# Altium integrated library FPGA Generic.IntLib: 1651 symbols (part 1 of 20)
Pins are listed as number, name and electrical type; pins without a type are passive.

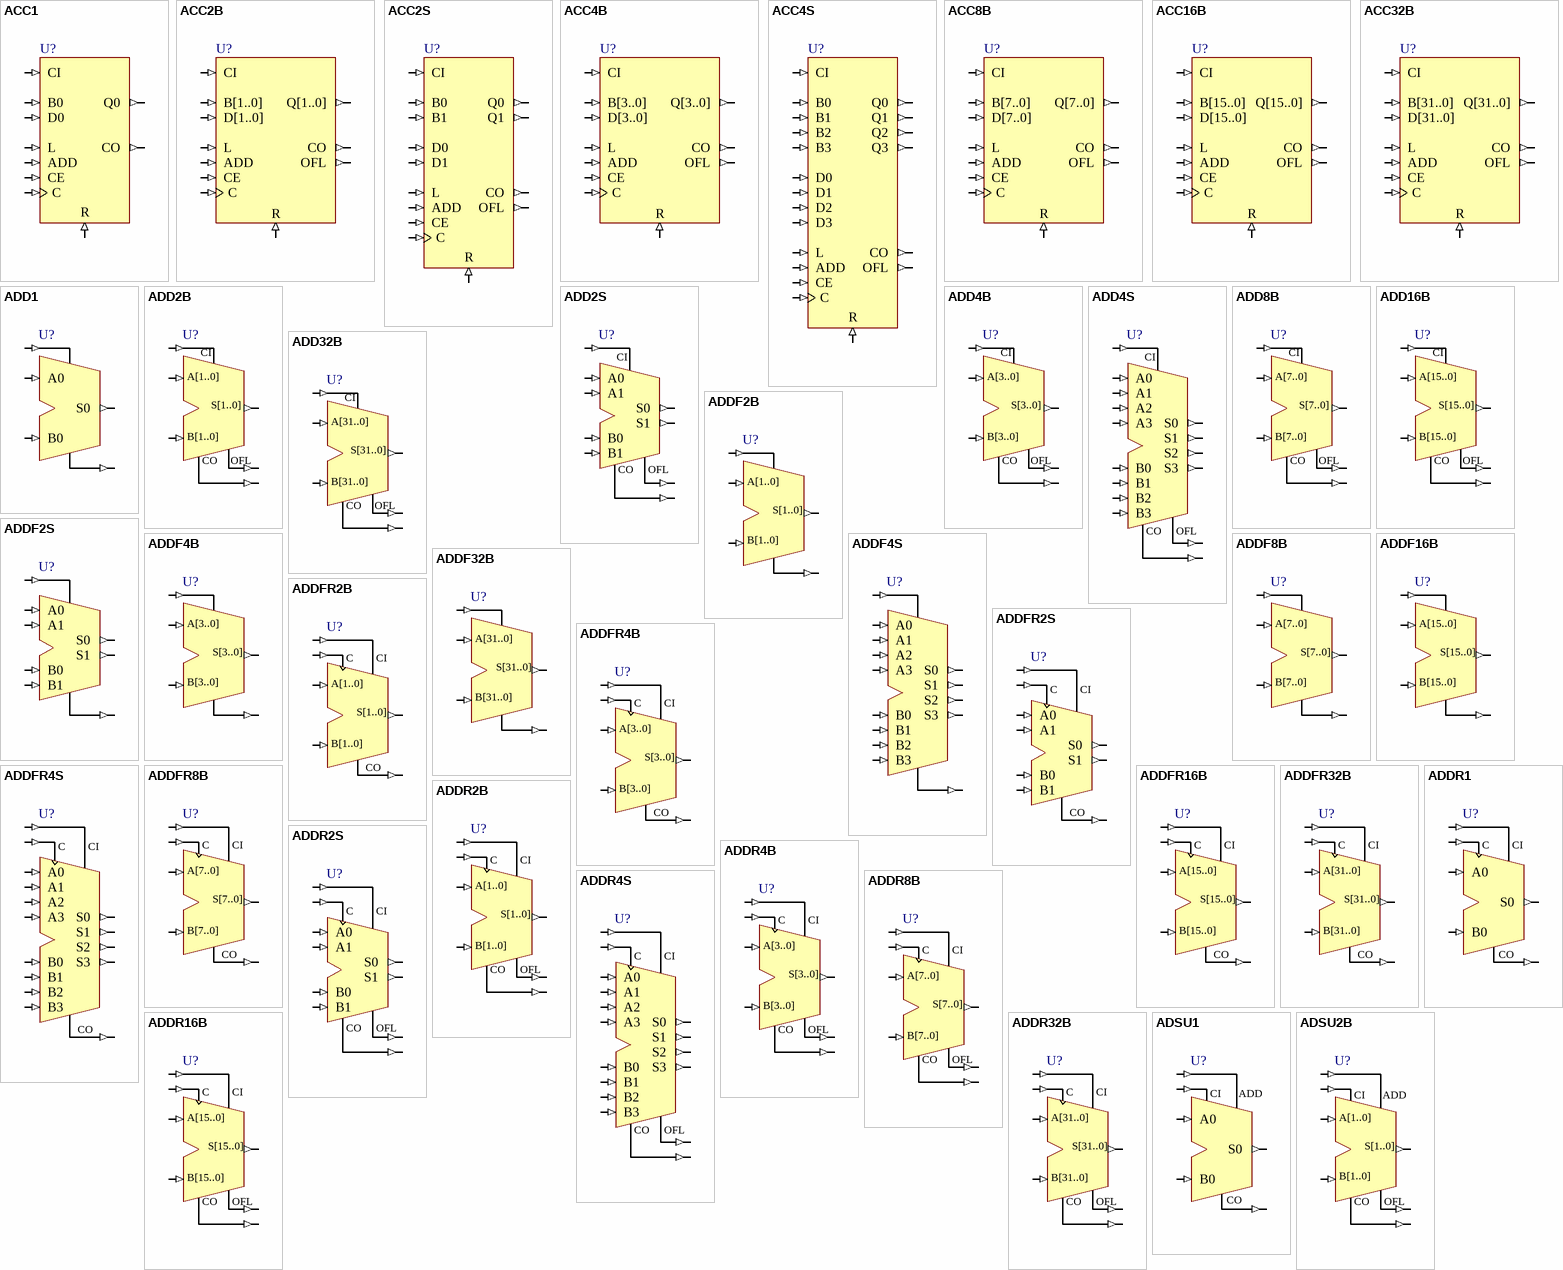
[diagram p0: symbols ACC1 to ADSU2B]

## ACC1
designator U?
1-Bit Loadable Cascadable Accumulator with Synchronous Reset; XilinxEquivalent: ACC1; FunctionalClass: Arithmetic Function; SubClass: ACC; ClockTrigger: Rising; PortSize: 1; ArchiveName: GENERIC; VHDLIB_SIM: GENERIC_LIB; Published: 31-May-2004; Publisher: Altium Limited; LastRevisionNo: 1.00.00; HelpURL: CR0118 FPGA Generic Library Guide.pdf#page=93; ComponentLink1URL: CR0124 FPGA Arithmetic Function Resource Usage.pdf#page=3; ComponentLink1Description: Core &Resource Usage
pins: ADD (in), B0 (in), C (in), CE (in), CI (in), CO (out), D0 (in), L (in), Q0 (out), R (in)

## ACC2B
designator U?
2-Bit Loadable Cascadable Accumulator with Synchronous Reset, Bus Version; FunctionalClass: Arithmetic Function; SubClass: ACC; ClockTrigger: Rising; PortSize: 2; ArchiveName: GENERIC; VHDLIB_SIM: GENERIC_LIB; Published: 31-May-2004; Publisher: Altium Limited; LastRevisionNo: 1.00.00; HelpURL: CR0118 FPGA Generic Library Guide.pdf#page=94; ComponentLink1URL: CR0124 FPGA Arithmetic Function Resource Usage.pdf#page=4; ComponentLink1Description: Core &Resource Usage; PortStyle: Bus Version
pins: ADD (in), B[1..0] (in), C (in), CE (in), CI (in), CO (out), D[1..0] (in), L (in), OFL (out), Q[1..0] (out), R (in)

## ACC2S
designator U?
2-Bit Loadable Cascadable Accumulator with Synchronous Reset, Single Pin Version; FunctionalClass: Arithmetic Function; SubClass: ACC; ClockTrigger: Rising; PortSize: 2; ArchiveName: GENERIC; VHDLIB_SIM: GENERIC_LIB; Published: 31-May-2004; Publisher: Altium Limited; LastRevisionNo: 1.00.00; HelpURL: CR0118 FPGA Generic Library Guide.pdf#page=94; ComponentLink1URL: CR0124 FPGA Arithmetic Function Resource Usage.pdf#page=5; ComponentLink1Description: Core &Resource Usage; PortStyle: Single Pin Version
pins: ADD (in), B0 (in), B1 (in), C (in), CE (in), CI (in), CO (out), D0 (in), D1 (in), L (in), OFL (out), Q0 (out), Q1 (out), R (in)

## ACC4B
designator U?
4-Bit Loadable Cascadable Accumulator with Synchronous Reset, Bus Version; FunctionalClass: Arithmetic Function; SubClass: ACC; ClockTrigger: Rising; PortSize: 4; ArchiveName: GENERIC; VHDLIB_SIM: GENERIC_LIB; Published: 31-May-2004; Publisher: Altium Limited; LastRevisionNo: 1.00.00; HelpURL: CR0118 FPGA Generic Library Guide.pdf#page=94; ComponentLink1URL: CR0124 FPGA Arithmetic Function Resource Usage.pdf#page=6; ComponentLink1Description: Core &Resource Usage; PortStyle: Bus Version
pins: ADD (in), B[3..0] (in), C (in), CE (in), CI (in), CO (out), D[3..0] (in), L (in), OFL (out), Q[3..0] (out), R (in)

## ACC4S
designator U?
4-Bit Loadable Cascadable Accumulator with Synchronous Reset, Single Pin Version; XilinxEquivalent: ACC4; FunctionalClass: Arithmetic Function; SubClass: ACC; ClockTrigger: Rising; PortSize: 4; ArchiveName: GENERIC; VHDLIB_SIM: GENERIC_LIB; Published: 31-May-2004; Publisher: Altium Limited; LastRevisionNo: 1.00.00; HelpURL: CR0118 FPGA Generic Library Guide.pdf#page=94; ComponentLink1URL: CR0124 FPGA Arithmetic Function Resource Usage.pdf#page=7; ComponentLink1Description: Core &Resource Usage; PortStyle: Single Pin Version
pins: ADD (in), B0 (in), B1 (in), B2 (in), B3 (in), C (in), CE (in), CI (in), CO (out), D0 (in), D1 (in), D2 (in), D3 (in), L (in), OFL (out), Q0 (out), Q1 (out), Q2 (out), Q3 (out), R (in)

## ACC8B
designator U?
8-Bit Loadable Cascadable Accumulator with Synchronous Reset, Bus Version; XilinxEquivalent: ACC8; FunctionalClass: Arithmetic Function; SubClass: ACC; ClockTrigger: Rising; PortSize: 8; ArchiveName: GENERIC; VHDLIB_SIM: GENERIC_LIB; Published: 31-May-2004; Publisher: Altium Limited; LastRevisionNo: 1.00.00; HelpURL: CR0118 FPGA Generic Library Guide.pdf#page=94; ComponentLink1URL: CR0124 FPGA Arithmetic Function Resource Usage.pdf#page=8; ComponentLink1Description: Core &Resource Usage; PortStyle: Bus Version
pins: ADD (in), B[7..0] (in), C (in), CE (in), CI (in), CO (out), D[7..0] (in), L (in), OFL (out), Q[7..0] (out), R (in)

## ACC16B
designator U?
16-Bit Loadable Cascadable Accumulator with Synchronous Reset, Bus Version; XilinxEquivalent: ACC16; FunctionalClass: Arithmetic Function; SubClass: ACC; ClockTrigger: Rising; PortSize: 16; ArchiveName: GENERIC; VHDLIB_SIM: GENERIC_LIB; Published: 31-May-2004; Publisher: Altium Limited; LastRevisionNo: 1.00.00; HelpURL: CR0118 FPGA Generic Library Guide.pdf#page=94; ComponentLink1URL: CR0124 FPGA Arithmetic Function Resource Usage.pdf#page=9; ComponentLink1Description: Core &Resource Usage; PortStyle: Bus Version
pins: ADD (in), B[15..0] (in), C (in), CE (in), CI (in), CO (out), D[15..0] (in), L (in), OFL (out), Q[15..0] (out), R (in)

## ACC32B
designator U?
32-Bit Loadable Cascadable Accumulator with Synchronous Reset, Bus Version; FunctionalClass: Arithmetic Function; SubClass: ACC; ClockTrigger: Rising; PortSize: 32; ArchiveName: GENERIC; VHDLIB_SIM: GENERIC_LIB; Published: 31-May-2004; Publisher: Altium Limited; LastRevisionNo: 1.00.00; HelpURL: CR0118 FPGA Generic Library Guide.pdf#page=94; ComponentLink1URL: CR0124 FPGA Arithmetic Function Resource Usage.pdf#page=10; ComponentLink1Description: Core &Resource Usage; PortStyle: Bus Version
pins: ADD (in), B[31..0] (in), C (in), CE (in), CI (in), CO (out), D[31..0] (in), L (in), OFL (out), Q[31..0] (out), R (in)

## ADD1
designator U?
1-Bit Cascadable Full Adder; XilinxEquivalent: ADD1; FunctionalClass: Arithmetic Function; SubClass: ADD; PortSize: 1; ArchiveName: GENERIC; VHDLIB_SIM: GENERIC_LIB; Published: 29-Jan-2004; Publisher: Altium Limited; LastRevisionNo: 1.00.00; HelpURL: CR0118 FPGA Generic Library Guide.pdf#page=97; ComponentLink1URL: CR0124 FPGA Arithmetic Function Resource Usage.pdf#page=11; ComponentLink1Description: Core &Resource Usage
pins: A0 (in), B0 (in), CI (in), CO (out), S0 (out)

## ADD2B
designator U?
2-Bit Cascadable Full Adder with Signed and Unsigned Operations, Bus Version; FunctionalClass: Arithmetic Function; SubClass: ADD; PortSize: 2; ArchiveName: GENERIC; VHDLIB_SIM: GENERIC_LIB; Published: 29-Jan-2004; Publisher: Altium Limited; LastRevisionNo: 1.00.00; HelpURL: CR0118 FPGA Generic Library Guide.pdf#page=98; ComponentLink1URL: CR0124 FPGA Arithmetic Function Resource Usage.pdf#page=12; ComponentLink1Description: Core &Resource Usage; PortStyle: Bus Version
pins: A[1..0] (in), B[1..0] (in), CI (in), CO (out), OFL (out), S[1..0] (out)

## ADD2S
designator U?
2-Bit Cascadable Full Adder with Signed and Unsigned Operations, Single Pin Version; FunctionalClass: Arithmetic Function; SubClass: ADD; PortSize: 2; ArchiveName: GENERIC; VHDLIB_SIM: GENERIC_LIB; Published: 29-Jan-2004; Publisher: Altium Limited; LastRevisionNo: 1.00.00; HelpURL: CR0118 FPGA Generic Library Guide.pdf#page=98; ComponentLink1URL: CR0124 FPGA Arithmetic Function Resource Usage.pdf#page=13; ComponentLink1Description: Core &Resource Usage; PortStyle: Single Pin Version
pins: A0 (in), A1 (in), B0 (in), B1 (in), CI (in), CO (out), OFL (out), S0 (out), S1 (out)

## ADD4B
designator U?
4-Bit Cascadable Full Adder with Signed and Unsigned Operations, Bus Version; FunctionalClass: Arithmetic Function; SubClass: ADD; PortSize: 4; ArchiveName: GENERIC; VHDLIB_SIM: GENERIC_LIB; Published: 29-Jan-2004; Publisher: Altium Limited; LastRevisionNo: 1.00.00; HelpURL: CR0118 FPGA Generic Library Guide.pdf#page=98; ComponentLink1URL: CR0124 FPGA Arithmetic Function Resource Usage.pdf#page=14; ComponentLink1Description: Core &Resource Usage; PortStyle: Bus Version
pins: A[3..0] (in), B[3..0] (in), CI (in), CO (out), OFL (out), S[3..0] (out)

## ADD4S
designator U?
4-Bit Cascadable Full Adder with Signed and Unsigned Operations, Single Pin Version; XilinxEquivalent: ADD4; FunctionalClass: Arithmetic Function; SubClass: ADD; PortSize: 4; ArchiveName: GENERIC; VHDLIB_SIM: GENERIC_LIB; Published: 29-Jan-2004; Publisher: Altium Limited; LastRevisionNo: 1.00.00; HelpURL: CR0118 FPGA Generic Library Guide.pdf#page=98; ComponentLink1URL: CR0124 FPGA Arithmetic Function Resource Usage.pdf#page=15; ComponentLink1Description: Core &Resource Usage; PortStyle: Single Pin Version
pins: A0 (in), A1 (in), A2 (in), A3 (in), B0 (in), B1 (in), B2 (in), B3 (in), CI (in), CO (out), OFL (out), S0 (out), S1 (out), S2 (out), S3 (out)

## ADD8B
designator U?
8-Bit Cascadable Full Adder with Signed and Unsigned Operations, Bus Version; XilinxEquivalent: ADD8; FunctionalClass: Arithmetic Function; SubClass: ADD; PortSize: 8; ArchiveName: GENERIC; VHDLIB_SIM: GENERIC_LIB; Published: 29-Jan-2004; Publisher: Altium Limited; LastRevisionNo: 1.00.00; HelpURL: CR0118 FPGA Generic Library Guide.pdf#page=98; ComponentLink1URL: CR0124 FPGA Arithmetic Function Resource Usage.pdf#page=16; ComponentLink1Description: Core &Resource Usage; PortStyle: Bus Version
pins: A[7..0] (in), B[7..0] (in), CI (in), CO (out), OFL (out), S[7..0] (out)

## ADD16B
designator U?
16-Bit Cascadable Full Adder with Signed and Unsigned Operations, Bus Version; XilinxEquivalent: ADD16; FunctionalClass: Arithmetic Function; SubClass: ADD; PortSize: 16; ArchiveName: GENERIC; VHDLIB_SIM: GENERIC_LIB; Published: 29-Jan-2004; Publisher: Altium Limited; LastRevisionNo: 1.00.00; HelpURL: CR0118 FPGA Generic Library Guide.pdf#page=98; ComponentLink1URL: CR0124 FPGA Arithmetic Function Resource Usage.pdf#page=17; ComponentLink1Description: Core &Resource Usage; PortStyle: Bus Version
pins: A[15..0] (in), B[15..0] (in), CI (in), CO (out), OFL (out), S[15..0] (out)

## ADD32B
designator U?
32-Bit Cascadable Full Adder with Signed and Unsigned Operations, Bus Version; FunctionalClass: Arithmetic Function; SubClass: ADD; PortSize: 32; ArchiveName: GENERIC; VHDLIB_SIM: GENERIC_LIB; Published: 31-May-2004; Publisher: Altium Limited; LastRevisionNo: 1.00.00; HelpURL: CR0118 FPGA Generic Library Guide.pdf#page=98; ComponentLink1URL: CR0124 FPGA Arithmetic Function Resource Usage.pdf#page=18; ComponentLink1Description: Core &Resource Usage; PortStyle: Bus Version
pins: A[31..0] (in), B[31..0] (in), CI (in), CO (out), OFL (out), S[31..0] (out)

## ADDF2B
designator U?
2-Bit Cascadable Unsigned Binary Full Adder, Bus Version; FunctionalClass: Arithmetic Function; SubClass: ADDF; PortSize: 2; ArchiveName: GENERIC; VHDLIB_SIM: GENERIC_LIB; Published: 29-Jan-2004; Publisher: Altium Limited; LastRevisionNo: 1.00.00; HelpURL: CR0118 FPGA Generic Library Guide.pdf#page=100; ComponentLink1URL: CR0124 FPGA Arithmetic Function Resource Usage.pdf#page=19; ComponentLink1Description: Core &Resource Usage; PortStyle: Bus Version
pins: A[1..0] (in), B[1..0] (in), CI (in), CO (out), S[1..0] (out)

## ADDF2S
designator U?
2-Bit Cascadable Unsigned Binary Full Adder, Single Pin Version; FunctionalClass: Arithmetic Function; SubClass: ADDF; PortSize: 2; ArchiveName: GENERIC; VHDLIB_SIM: GENERIC_LIB; Published: 29-Jan-2004; Publisher: Altium Limited; LastRevisionNo: 1.00.00; HelpURL: CR0118 FPGA Generic Library Guide.pdf#page=100; ComponentLink1URL: CR0124 FPGA Arithmetic Function Resource Usage.pdf#page=20; ComponentLink1Description: Core &Resource Usage; PortStyle: Single Pin Version
pins: A0 (in), A1 (in), B0 (in), B1 (in), CI (in), CO (out), S0 (out), S1 (out)

## ADDF4B
designator U?
4-Bit Cascadable Unsigned Binary Full Adder, Bus Version; FunctionalClass: Arithmetic Function; SubClass: ADDF; PortSize: 4; ArchiveName: GENERIC; VHDLIB_SIM: GENERIC_LIB; Published: 29-Jan-2004; Publisher: Altium Limited; LastRevisionNo: 1.00.00; HelpURL: CR0118 FPGA Generic Library Guide.pdf#page=100; ComponentLink1URL: CR0124 FPGA Arithmetic Function Resource Usage.pdf#page=21; ComponentLink1Description: Core &Resource Usage; PortStyle: Bus Version
pins: A[3..0] (in), B[3..0] (in), CI (in), CO (out), S[3..0] (out)

## ADDF4S
designator U?
4-Bit Cascadable Unsigned Binary Full Adder, Single Pin Version; FunctionalClass: Arithmetic Function; SubClass: ADDF; PortSize: 4; ArchiveName: GENERIC; VHDLIB_SIM: GENERIC_LIB; Published: 29-Jan-2004; Publisher: Altium Limited; LastRevisionNo: 1.00.00; HelpURL: CR0118 FPGA Generic Library Guide.pdf#page=100; ComponentLink1URL: CR0124 FPGA Arithmetic Function Resource Usage.pdf#page=22; ComponentLink1Description: Core &Resource Usage; PortStyle: Single Pin Version
pins: A0 (in), A1 (in), A2 (in), A3 (in), B0 (in), B1 (in), B2 (in), B3 (in), CI (in), CO (out), S0 (out), S1 (out), S2 (out), S3 (out)

## ADDF8B
designator U?
8-Bit Cascadable Unsigned Binary Full Adder, Bus Version; FunctionalClass: Arithmetic Function; SubClass: ADDF; PortSize: 8; ArchiveName: GENERIC; VHDLIB_SIM: GENERIC_LIB; Published: 31-May-2004; Publisher: Altium Limited; LastRevisionNo: 1.00.00; HelpURL: CR0118 FPGA Generic Library Guide.pdf#page=100; ComponentLink1URL: CR0124 FPGA Arithmetic Function Resource Usage.pdf#page=23; ComponentLink1Description: Core &Resource Usage; PortStyle: Bus Version
pins: A[7..0] (in), B[7..0] (in), CI (in), CO (out), S[7..0] (out)

## ADDF16B
designator U?
16-Bit Cascadable Unsigned Binary Full Adder, Bus Version; FunctionalClass: Arithmetic Function; SubClass: ADDF; PortSize: 16; ArchiveName: GENERIC; VHDLIB_SIM: GENERIC_LIB; Published: 31-May-2004; Publisher: Altium Limited; LastRevisionNo: 1.00.00; HelpURL: CR0118 FPGA Generic Library Guide.pdf#page=100; ComponentLink1URL: CR0124 FPGA Arithmetic Function Resource Usage.pdf#page=24; ComponentLink1Description: Core &Resource Usage; PortStyle: Bus Version
pins: A[15..0] (in), B[15..0] (in), CI (in), CO (out), S[15..0] (out)

## ADDF32B
designator U?
32-Bit Cascadable Unsigned Binary Full Adder, Bus Version; FunctionalClass: Arithmetic Function; SubClass: ADDF; PortSize: 32; ArchiveName: GENERIC; VHDLIB_SIM: GENERIC_LIB; Published: 31-May-2004; Publisher: Altium Limited; LastRevisionNo: 1.00.00; HelpURL: CR0118 FPGA Generic Library Guide.pdf#page=100; ComponentLink1URL: CR0124 FPGA Arithmetic Function Resource Usage.pdf#page=25; ComponentLink1Description: Core &Resource Usage; PortStyle: Bus Version
pins: A[31..0] (in), B[31..0] (in), CI (in), CO (out), S[31..0] (out)

## ADDFR2B
designator U?
2-Bit Cascadable Unsigned Binary Registered Full Adder, Bus Version; FunctionalClass: Arithmetic Function; SubClass: ADDF; Registered: True; ClockTrigger: Rising; PortSize: 2; ArchiveName: GENERIC; VHDLIB_SIM: GENERIC_LIB; Published: 31-May-2004; Publisher: Altium Limited; LastRevisionNo: 1.00.00; HelpURL: CR0118 FPGA Generic Library Guide.pdf#page=101; ComponentLink1URL: CR0124 FPGA Arithmetic Function Resource Usage.pdf#page=26; ComponentLink1Description: Core &Resource Usage; PortStyle: Bus Version
pins: A[1..0] (in), B[1..0] (in), C (in), CI (in), CO (out), S[1..0] (out)

## ADDFR2S
designator U?
2-Bit Cascadable Unsigned Binary Registered Full Adder, Single Pin Version; FunctionalClass: Arithmetic Function; SubClass: ADDF; Registered: True; ClockTrigger: Rising; PortSize: 2; ArchiveName: GENERIC; VHDLIB_SIM: GENERIC_LIB; Published: 31-May-2004; Publisher: Altium Limited; LastRevisionNo: 1.00.00; HelpURL: CR0118 FPGA Generic Library Guide.pdf#page=101; ComponentLink1URL: CR0124 FPGA Arithmetic Function Resource Usage.pdf#page=27; ComponentLink1Description: Core &Resource Usage; PortStyle: Single Pin Version
pins: A0 (in), A1 (in), B0 (in), B1 (in), C (in), CI (in), CO (out), S0 (out), S1 (out)

## ADDFR4B
designator U?
4-Bit Cascadable Unsigned Binary Registered Full Adder, Bus Version; FunctionalClass: Arithmetic Function; SubClass: ADDF; Registered: True; ClockTrigger: Rising; PortSize: 4; ArchiveName: GENERIC; VHDLIB_SIM: GENERIC_LIB; Published: 31-May-2004; Publisher: Altium Limited; LastRevisionNo: 1.00.00; HelpURL: CR0118 FPGA Generic Library Guide.pdf#page=101; ComponentLink1URL: CR0124 FPGA Arithmetic Function Resource Usage.pdf#page=28; ComponentLink1Description: Core &Resource Usage; PortStyle: Bus Version
pins: A[3..0] (in), B[3..0] (in), C (in), CI (in), CO (out), S[3..0] (out)

## ADDFR4S
designator U?
4-Bit Cascadable Unsigned Binary Registered Full Adder, Single Pin Version; FunctionalClass: Arithmetic Function; SubClass: ADDF; Registered: True; ClockTrigger: Rising; PortSize: 4; ArchiveName: GENERIC; VHDLIB_SIM: GENERIC_LIB; Published: 31-May-2004; Publisher: Altium Limited; LastRevisionNo: 1.00.00; HelpURL: CR0118 FPGA Generic Library Guide.pdf#page=101; ComponentLink1URL: CR0124 FPGA Arithmetic Function Resource Usage.pdf#page=29; ComponentLink1Description: Core &Resource Usage; PortStyle: Single Pin Version
pins: A0 (in), A1 (in), A2 (in), A3 (in), B0 (in), B1 (in), B2 (in), B3 (in), C (in), CI (in), CO (out), S0 (out), S1 (out), S2 (out), S3 (out)

## ADDFR8B
designator U?
8-Bit Cascadable Unsigned Binary Registered Full Adder, Bus Version; FunctionalClass: Arithmetic Function; SubClass: ADDF; Registered: True; ClockTrigger: Rising; PortSize: 8; ArchiveName: GENERIC; VHDLIB_SIM: GENERIC_LIB; Published: 31-May-2004; Publisher: Altium Limited; LastRevisionNo: 1.00.00; HelpURL: CR0118 FPGA Generic Library Guide.pdf#page=101; ComponentLink1URL: CR0124 FPGA Arithmetic Function Resource Usage.pdf#page=30; ComponentLink1Description: Core &Resource Usage; PortStyle: Bus Version
pins: A[7..0] (in), B[7..0] (in), C (in), CI (in), CO (out), S[7..0] (out)

## ADDFR16B
designator U?
16-Bit Cascadable Unsigned Binary Registered Full Adder, Bus Version; FunctionalClass: Arithmetic Function; SubClass: ADDF; Registered: True; ClockTrigger: Rising; PortSize: 16; ArchiveName: GENERIC; VHDLIB_SIM: GENERIC_LIB; Published: 31-May-2004; Publisher: Altium Limited; LastRevisionNo: 1.00.00; HelpURL: CR0118 FPGA Generic Library Guide.pdf#page=101; ComponentLink1URL: CR0124 FPGA Arithmetic Function Resource Usage.pdf#page=31; ComponentLink1Description: Core &Resource Usage; PortStyle: Bus Version
pins: A[15..0] (in), B[15..0] (in), C (in), CI (in), CO (out), S[15..0] (out)

## ADDFR32B
designator U?
32-Bit Cascadable Unsigned Binary Registered Full Adder, Bus Version; FunctionalClass: Arithmetic Function; SubClass: ADDF; Registered: True; ClockTrigger: Rising; PortSize: 32; ArchiveName: GENERIC; VHDLIB_SIM: GENERIC_LIB; Published: 31-May-2004; Publisher: Altium Limited; LastRevisionNo: 1.00.00; HelpURL: CR0118 FPGA Generic Library Guide.pdf#page=101; ComponentLink1URL: CR0124 FPGA Arithmetic Function Resource Usage.pdf#page=32; ComponentLink1Description: Core &Resource Usage; PortStyle: Bus Version
pins: A[31..0] (in), B[31..0] (in), C (in), CI (in), CO (out), S[31..0] (out)

## ADDR1
designator U?
1-Bit Cascadable Registered Full Adder; FunctionalClass: Arithmetic Function; SubClass: ADD; Registered: True; ClockTrigger: Rising; PortSize: 1; ArchiveName: GENERIC; VHDLIB_SIM: GENERIC_LIB; Published: 31-May-2004; Publisher: Altium Limited; LastRevisionNo: 1.00.00; HelpURL: CR0118 FPGA Generic Library Guide.pdf#page=102; ComponentLink1URL: CR0124 FPGA Arithmetic Function Resource Usage.pdf#page=33; ComponentLink1Description: Core &Resource Usage
pins: A0 (in), B0 (in), C (in), CI (in), CO (out), S0 (out)

## ADDR2B
designator U?
2-Bit Cascadable Registered Full Adder with Signed and Unsigned Operations, Bus Version; FunctionalClass: Arithmetic Function; SubClass: ADD; Registered: True; ClockTrigger: Rising; PortSize: 2; ArchiveName: GENERIC; VHDLIB_SIM: GENERIC_LIB; Published: 31-May-2004; Publisher: Altium Limited; LastRevisionNo: 1.00.00; HelpURL: CR0118 FPGA Generic Library Guide.pdf#page=103; ComponentLink1URL: CR0124 FPGA Arithmetic Function Resource Usage.pdf#page=34; ComponentLink1Description: Core &Resource Usage; PortStyle: Bus Version
pins: A[1..0] (in), B[1..0] (in), C (in), CI (in), CO (out), OFL (out), S[1..0] (out)

## ADDR2S
designator U?
2-Bit Cascadable Registered Full Adder with Signed and Unsigned Operations, Single Pin Version; FunctionalClass: Arithmetic Function; SubClass: ADD; Registered: True; ClockTrigger: Rising; PortSize: 2; ArchiveName: GENERIC; VHDLIB_SIM: GENERIC_LIB; Published: 31-May-2004; Publisher: Altium Limited; LastRevisionNo: 1.00.00; HelpURL: CR0118 FPGA Generic Library Guide.pdf#page=103; ComponentLink1URL: CR0124 FPGA Arithmetic Function Resource Usage.pdf#page=35; ComponentLink1Description: Core &Resource Usage; PortStyle: Single Pin Version
pins: A0 (in), A1 (in), B0 (in), B1 (in), C (in), CI (in), CO (out), OFL (out), S0 (out), S1 (out)

## ADDR4B
designator U?
4-Bit Cascadable Registered Full Adder with Signed and Unsigned Operations, Bus Version; FunctionalClass: Arithmetic Function; SubClass: ADD; Registered: True; ClockTrigger: Rising; PortSize: 4; ArchiveName: GENERIC; VHDLIB_SIM: GENERIC_LIB; Published: 31-May-2004; Publisher: Altium Limited; LastRevisionNo: 1.00.00; HelpURL: CR0118 FPGA Generic Library Guide.pdf#page=103; ComponentLink1URL: CR0124 FPGA Arithmetic Function Resource Usage.pdf#page=36; ComponentLink1Description: Core &Resource Usage; PortStyle: Bus Version
pins: A[3..0] (in), B[3..0] (in), C (in), CI (in), CO (out), OFL (out), S[3..0] (out)

## ADDR4S
designator U?
4-Bit Cascadable Registered Full Adder with Signed and Unsigned Operations, Single Pin Version; FunctionalClass: Arithmetic Function; SubClass: ADD; Registered: True; ClockTrigger: Rising; PortSize: 4; ArchiveName: GENERIC; VHDLIB_SIM: GENERIC_LIB; Published: 31-May-2004; Publisher: Altium Limited; LastRevisionNo: 1.00.00; HelpURL: CR0118 FPGA Generic Library Guide.pdf#page=103; ComponentLink1URL: CR0124 FPGA Arithmetic Function Resource Usage.pdf#page=37; ComponentLink1Description: Core &Resource Usage; PortStyle: Single Pin Version
pins: A0 (in), A1 (in), A2 (in), A3 (in), B0 (in), B1 (in), B2 (in), B3 (in), C (in), CI (in), CO (out), OFL (out), S0 (out), S1 (out), S2 (out), S3 (out)

## ADDR8B
designator U?
8-Bit Cascadable Registered Full Adder with Signed and Unsigned Operations, Bus Version; FunctionalClass: Arithmetic Function; SubClass: ADD; Registered: True; ClockTrigger: Rising; PortSize: 8; ArchiveName: GENERIC; VHDLIB_SIM: GENERIC_LIB; Published: 31-May-2004; Publisher: Altium Limited; LastRevisionNo: 1.00.00; HelpURL: CR0118 FPGA Generic Library Guide.pdf#page=103; ComponentLink1URL: CR0124 FPGA Arithmetic Function Resource Usage.pdf#page=38; ComponentLink1Description: Core &Resource Usage; PortStyle: Bus Version
pins: A[7..0] (in), B[7..0] (in), C (in), CI (in), CO (out), OFL (out), S[7..0] (out)

## ADDR16B
designator U?
16-Bit Cascadable Registered Full Adder with Signed and Unsigned Operations, Bus Version; FunctionalClass: Arithmetic Function; SubClass: ADD; Registered: True; ClockTrigger: Rising; PortSize: 16; ArchiveName: GENERIC; VHDLIB_SIM: GENERIC_LIB; Published: 31-May-2004; Publisher: Altium Limited; LastRevisionNo: 1.00.00; HelpURL: CR0118 FPGA Generic Library Guide.pdf#page=103; ComponentLink1URL: CR0124 FPGA Arithmetic Function Resource Usage.pdf#page=39; ComponentLink1Description: Core &Resource Usage; PortStyle: Bus Version
pins: A[15..0] (in), B[15..0] (in), C (in), CI (in), CO (out), OFL (out), S[15..0] (out)

## ADDR32B
designator U?
32-Bit Cascadable Registered Full Adder with Signed and Unsigned Operations, Bus Version; FunctionalClass: Arithmetic Function; SubClass: ADD; Registered: True; ClockTrigger: Rising; PortSize: 32; ArchiveName: GENERIC; VHDLIB_SIM: GENERIC_LIB; Published: 31-May-2004; Publisher: Altium Limited; LastRevisionNo: 1.00.00; HelpURL: CR0118 FPGA Generic Library Guide.pdf#page=103; ComponentLink1URL: CR0124 FPGA Arithmetic Function Resource Usage.pdf#page=40; ComponentLink1Description: Core &Resource Usage; PortStyle: Bus Version
pins: A[31..0] (in), B[31..0] (in), C (in), CI (in), CO (out), OFL (out), S[31..0] (out)

## ADSU1
designator U?
1-Bit Cascadable Full Adder/Subtracter; XilinxEquivalent: ADSU1; FunctionalClass: Arithmetic Function; SubClass: ADSU; PortSize: 1; ArchiveName: GENERIC; VHDLIB_SIM: GENERIC_LIB; Published: 31-May-2004; Publisher: Altium Limited; LastRevisionNo: 1.00.00; HelpURL: CR0118 FPGA Generic Library Guide.pdf#page=106; ComponentLink1URL: CR0124 FPGA Arithmetic Function Resource Usage.pdf#page=41; ComponentLink1Description: Core &Resource Usage
pins: A0 (in), ADD (in), B0 (in), CI (in), CO (out), S0 (out)

## ADSU2B
designator U?
2-Bit Cascadable Full Adder/Subtracter with Signed and Unsigned Operations, Bus Version; FunctionalClass: Arithmetic Function; SubClass: ADSU; PortSize: 2; ArchiveName: GENERIC; VHDLIB_SIM: GENERIC_LIB; Published: 29-Jan-2004; Publisher: Altium Limited; LastRevisionNo: 1.00.00; HelpURL: CR0118 FPGA Generic Library Guide.pdf#page=107; ComponentLink1URL: CR0124 FPGA Arithmetic Function Resource Usage.pdf#page=42; ComponentLink1Description: Core &Resource Usage; PortStyle: Bus Version
pins: A[1..0] (in), ADD (in), B[1..0] (in), CI (in), CO (out), OFL (out), S[1..0] (out)

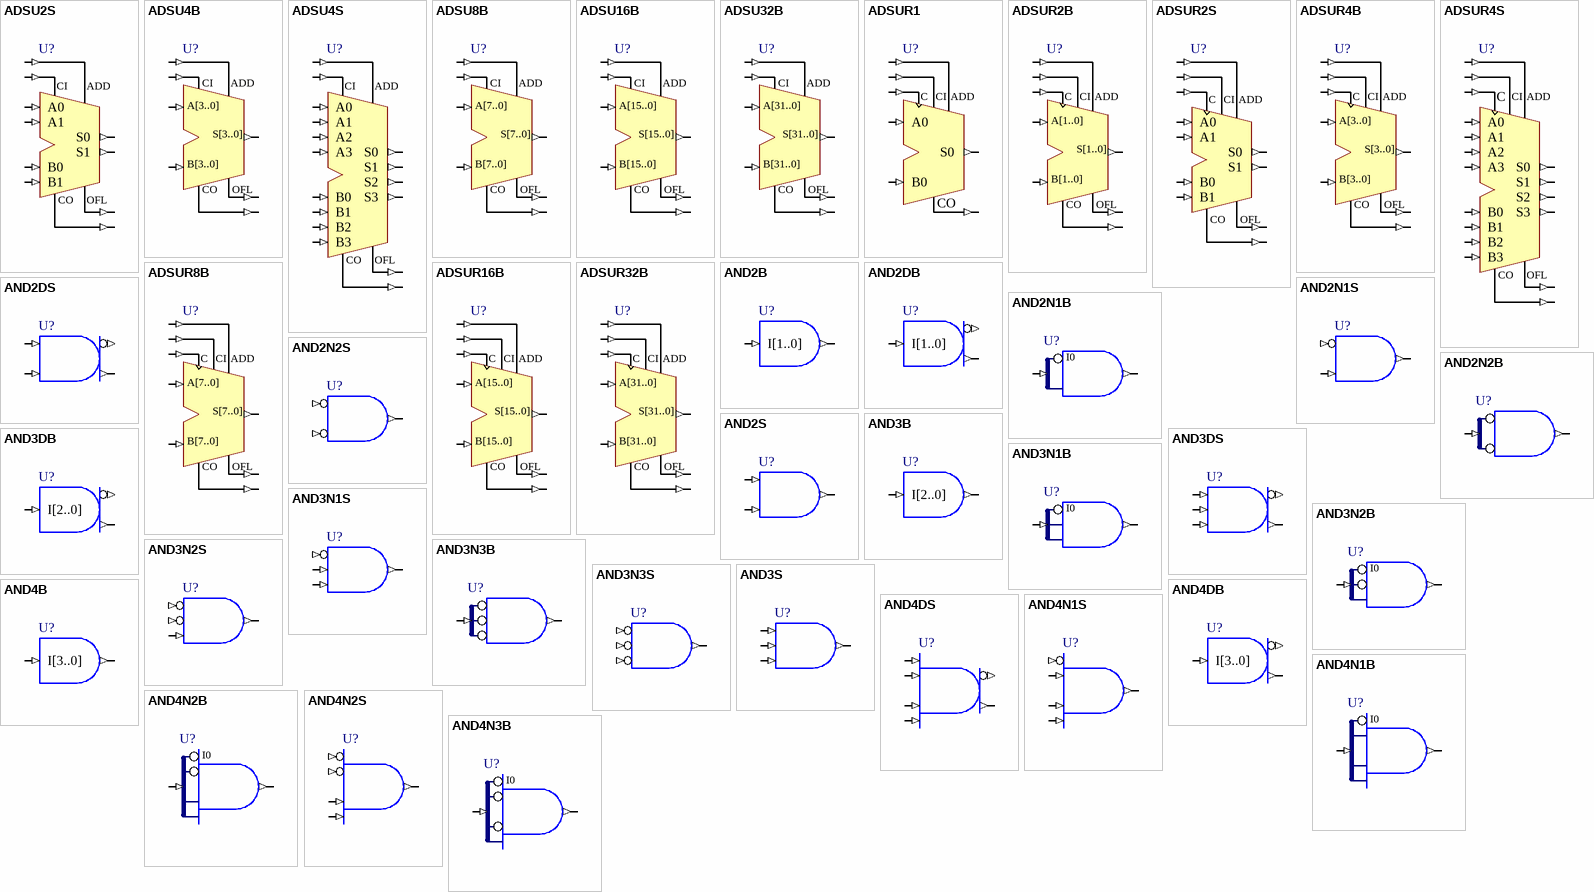
[diagram p1: symbols ADSU2S to AND4N3B]

## ADSU2S
designator U?
2-Bit Cascadable Full Adder/Subtracter with Signed and Unsigned Operations, Single Pin Version; FunctionalClass: Arithmetic Function; SubClass: ADSU; PortSize: 2; ArchiveName: GENERIC; VHDLIB_SIM: GENERIC_LIB; Published: 29-Jan-2004; Publisher: Altium Limited; LastRevisionNo: 1.00.00; HelpURL: CR0118 FPGA Generic Library Guide.pdf#page=107; ComponentLink1URL: CR0124 FPGA Arithmetic Function Resource Usage.pdf#page=43; ComponentLink1Description: Core &Resource Usage; PortStyle: Single Pin Version
pins: A0 (in), A1 (in), ADD (in), B0 (in), B1 (in), CI (in), CO (out), OFL (out), S0 (out), S1 (out)

## ADSU4B
designator U?
4-Bit Cascadable Full Adder/Subtracter with Signed and Unsigned Operations, Bus Version; FunctionalClass: Arithmetic Function; SubClass: ADSU; PortSize: 4; ArchiveName: GENERIC; VHDLIB_SIM: GENERIC_LIB; Published: 29-Jan-2004; Publisher: Altium Limited; LastRevisionNo: 1.00.00; HelpURL: CR0118 FPGA Generic Library Guide.pdf#page=107; ComponentLink1URL: CR0124 FPGA Arithmetic Function Resource Usage.pdf#page=44; ComponentLink1Description: Core &Resource Usage; PortStyle: Bus Version
pins: A[3..0] (in), ADD (in), B[3..0] (in), CI (in), CO (out), OFL (out), S[3..0] (out)

## ADSU4S
designator U?
4-Bit Cascadable Full Adder/Subtracter with Signed and Unsigned Operations, Single Pin Version; XilinxEquivalent: ADSU4; FunctionalClass: Arithmetic Function; SubClass: ADSU; PortSize: 4; ArchiveName: GENERIC; VHDLIB_SIM: GENERIC_LIB; Published: 29-Jan-2004; Publisher: Altium Limited; LastRevisionNo: 1.00.00; HelpURL: CR0118 FPGA Generic Library Guide.pdf#page=107; ComponentLink1URL: CR0124 FPGA Arithmetic Function Resource Usage.pdf#page=45; ComponentLink1Description: Core &Resource Usage; PortStyle: Single Pin Version
pins: A0 (in), A1 (in), A2 (in), A3 (in), ADD (in), B0 (in), B1 (in), B2 (in), B3 (in), CI (in), CO (out), OFL (out), S0 (out), S1 (out), S2 (out), S3 (out)

## ADSU8B
designator U?
8-Bit Cascadable Full Adder/Subtracter with Signed and Unsigned Operations, Bus Version; XilinxEquivalent: ADSU8; FunctionalClass: Arithmetic Function; SubClass: ADSU; PortSize: 8; ArchiveName: GENERIC; VHDLIB_SIM: GENERIC_LIB; Published: 29-Jan-2004; Publisher: Altium Limited; LastRevisionNo: 1.00.00; HelpURL: CR0118 FPGA Generic Library Guide.pdf#page=107; ComponentLink1URL: CR0124 FPGA Arithmetic Function Resource Usage.pdf#page=46; ComponentLink1Description: Core &Resource Usage; PortStyle: Bus Version
pins: A[7..0] (in), ADD (in), B[7..0] (in), CI (in), CO (out), OFL (out), S[7..0] (out)

## ADSU16B
designator U?
16-Bit Cascadable Full Adder/Subtracter with Signed and Unsigned Operations, Bus Version; XilinxEquivalent: ADSU16; FunctionalClass: Arithmetic Function; SubClass: ADSU; PortSize: 16; ArchiveName: GENERIC; VHDLIB_SIM: GENERIC_LIB; Published: 29-Jan-2004; Publisher: Altium Limited; LastRevisionNo: 1.00.00; HelpURL: CR0118 FPGA Generic Library Guide.pdf#page=107; ComponentLink1URL: CR0124 FPGA Arithmetic Function Resource Usage.pdf#page=47; ComponentLink1Description: Core &Resource Usage; PortStyle: Bus Version
pins: A[15..0] (in), ADD (in), B[15..0] (in), CI (in), CO (out), OFL (out), S[15..0] (out)

## ADSU32B
designator U?
32-Bit Cascadable Full Adder/Subtracter with Signed and Unsigned Operations, Bus Version; FunctionalClass: Arithmetic Function; SubClass: ADSU; PortSize: 32; ArchiveName: GENERIC; VHDLIB_SIM: GENERIC_LIB; Published: 31-May-2004; Publisher: Altium Limited; LastRevisionNo: 1.00.00; HelpURL: CR0118 FPGA Generic Library Guide.pdf#page=107; ComponentLink1URL: CR0124 FPGA Arithmetic Function Resource Usage.pdf#page=48; ComponentLink1Description: Core &Resource Usage; PortStyle: Bus Version
pins: A[31..0] (in), ADD (in), B[31..0] (in), CI (in), CO (out), OFL (out), S[31..0] (out)

## ADSUR1
designator U?
1-Bit Cascadable Registered Full Adder/Subtracter; FunctionalClass: Arithmetic Function; SubClass: ADSU; Registered: True; ClockTrigger: Rising; PortSize: 1; ArchiveName: GENERIC; VHDLIB_SIM: GENERIC_LIB; Published: 31-May-2004; Publisher: Altium Limited; LastRevisionNo: 1.00.00; HelpURL: CR0118 FPGA Generic Library Guide.pdf#page=110; ComponentLink1URL: CR0124 FPGA Arithmetic Function Resource Usage.pdf#page=49; ComponentLink1Description: Core &Resource Usage
pins: A0 (in), ADD (in), B0 (in), C (in), CI (in), CO (out), S0 (out)

## ADSUR2B
designator U?
2-Bit Cascadable Registered Full Adder/Subtracter with Signed and Unsigned Operations, Bus Version; FunctionalClass: Arithmetic Function; SubClass: ADSU; Registered: True; ClockTrigger: Rising; PortSize: 2; ArchiveName: GENERIC; VHDLIB_SIM: GENERIC_LIB; Published: 31-May-2004; Publisher: Altium Limited; LastRevisionNo: 1.00.00; HelpURL: CR0118 FPGA Generic Library Guide.pdf#page=111; ComponentLink1URL: CR0124 FPGA Arithmetic Function Resource Usage.pdf#page=50; ComponentLink1Description: Core &Resource Usage; PortStyle: Bus Version
pins: A[1..0] (in), ADD (in), B[1..0] (in), C (in), CI (in), CO (out), OFL (out), S[1..0] (out)

## ADSUR2S
designator U?
2-Bit Cascadable Registered Full Adder/Subtracter with Signed and Unsigned Operations, Single Pin Version; FunctionalClass: Arithmetic Function; SubClass: ADSU; Registered: True; ClockTrigger: Rising; PortSize: 2; ArchiveName: GENERIC; VHDLIB_SIM: GENERIC_LIB; Published: 31-May-2004; Publisher: Altium Limited; LastRevisionNo: 1.00.00; HelpURL: CR0118 FPGA Generic Library Guide.pdf#page=111; ComponentLink1URL: CR0124 FPGA Arithmetic Function Resource Usage.pdf#page=51; ComponentLink1Description: Core &Resource Usage; PortStyle: Single Pin Version
pins: A0 (in), A1 (in), ADD (in), B0 (in), B1 (in), C (in), CI (in), CO (out), OFL (out), S0 (out), S1 (out)

## ADSUR4B
designator U?
4-Bit Cascadable Registered Full Adder/Subtracter with Signed and Unsigned Operations, Bus Version; FunctionalClass: Arithmetic Function; SubClass: ADSU; Registered: True; ClockTrigger: Rising; PortSize: 4; ArchiveName: GENERIC; VHDLIB_SIM: GENERIC_LIB; Published: 31-May-2004; Publisher: Altium Limited; LastRevisionNo: 1.00.00; HelpURL: CR0118 FPGA Generic Library Guide.pdf#page=111; ComponentLink1URL: CR0124 FPGA Arithmetic Function Resource Usage.pdf#page=52; ComponentLink1Description: Core &Resource Usage; PortStyle: Bus Version
pins: A[3..0] (in), ADD (in), B[3..0] (in), C (in), CI (in), CO (out), OFL (out), S[3..0] (out)

## ADSUR4S
designator U?
4-Bit Cascadable Registered Full Adder/Subtracter with Signed and Unsigned Operations, Single Pin Version; FunctionalClass: Arithmetic Function; SubClass: ADSU; Registered: True; ClockTrigger: Rising; PortSize: 4; ArchiveName: GENERIC; VHDLIB_SIM: GENERIC_LIB; Published: 31-May-2004; Publisher: Altium Limited; LastRevisionNo: 1.00.00; HelpURL: CR0118 FPGA Generic Library Guide.pdf#page=111; ComponentLink1URL: CR0124 FPGA Arithmetic Function Resource Usage.pdf#page=53; ComponentLink1Description: Core &Resource Usage; PortStyle: Single Pin Version
pins: A0 (in), A1 (in), A2 (in), A3 (in), ADD (in), B0 (in), B1 (in), B2 (in), B3 (in), C (in), CI (in), CO (out), OFL (out), S0 (out), S1 (out), S2 (out), S3 (out)

## ADSUR8B
designator U?
8-Bit Cascadable Registered Full Adder/Subtracter with Signed and Unsigned Operations, Bus Version; FunctionalClass: Arithmetic Function; SubClass: ADSU; Registered: True; ClockTrigger: Rising; PortSize: 8; ArchiveName: GENERIC; VHDLIB_SIM: GENERIC_LIB; Published: 31-May-2004; Publisher: Altium Limited; LastRevisionNo: 1.00.00; HelpURL: CR0118 FPGA Generic Library Guide.pdf#page=111; ComponentLink1URL: CR0124 FPGA Arithmetic Function Resource Usage.pdf#page=54; ComponentLink1Description: Core &Resource Usage; PortStyle: Bus Version
pins: A[7..0] (in), ADD (in), B[7..0] (in), C (in), CI (in), CO (out), OFL (out), S[7..0] (out)

## ADSUR16B
designator U?
16-Bit Cascadable Registered Full Adder/Subtracter with Signed and Unsigned Operations, Bus Version; FunctionalClass: Arithmetic Function; SubClass: ADSU; Registered: True; ClockTrigger: Rising; PortSize: 16; ArchiveName: GENERIC; VHDLIB_SIM: GENERIC_LIB; Published: 31-May-2004; Publisher: Altium Limited; LastRevisionNo: 1.00.00; HelpURL: CR0118 FPGA Generic Library Guide.pdf#page=111; ComponentLink1URL: CR0124 FPGA Arithmetic Function Resource Usage.pdf#page=55; ComponentLink1Description: Core &Resource Usage; PortStyle: Bus Version
pins: A[15..0] (in), ADD (in), B[15..0] (in), C (in), CI (in), CO (out), OFL (out), S[15..0] (out)

## ADSUR32B
designator U?
32-Bit Cascadable Registered Full Adder/Subtracter with Signed and Unsigned Operations, Bus Version; FunctionalClass: Arithmetic Function; SubClass: ADSU; Registered: True; ClockTrigger: Rising; PortSize: 32; ArchiveName: GENERIC; VHDLIB_SIM: GENERIC_LIB; Published: 31-May-2004; Publisher: Altium Limited; LastRevisionNo: 1.00.00; HelpURL: CR0118 FPGA Generic Library Guide.pdf#page=111; ComponentLink1URL: CR0124 FPGA Arithmetic Function Resource Usage.pdf#page=56; ComponentLink1Description: Core &Resource Usage; PortStyle: Bus Version
pins: A[31..0] (in), ADD (in), B[31..0] (in), C (in), CI (in), CO (out), OFL (out), S[31..0] (out)

## AND2B
designator U?
2-Input AND Gate, Bus Version; FunctionalClass: Logic Primitive; PortSize: 2; ArchiveName: GENERIC; VHDLIB_SIM: GENERIC_LIB; Published: 29-Jan-2004; Publisher: Altium Limited; LastRevisionNo: 1.00.00; HelpURL: CR0118 FPGA Generic Library Guide.pdf#page=114; ComponentLink1URL: CR0136 FPGA Logic Primitive Resource Usage.pdf#page=6; ComponentLink1Description: Core &Resource Usage; SubClass: AND; PortStyle: Bus Version
pins: I[1..0] (in), O (out)

## AND2DB
designator U?
2-Input AND/NAND Gate, Bus Version; FunctionalClass: Logic Primitive; SubClass: AND; PortSize: 2; ArchiveName: GENERIC; VHDLIB_SIM: GENERIC_LIB; Published: 29-Jan-2004; Publisher: Altium Limited; LastRevisionNo: 1.00.00; HelpURL: CR0118 FPGA Generic Library Guide.pdf#page=114; ComponentLink1URL: CR0136 FPGA Logic Primitive Resource Usage.pdf#page=7; ComponentLink1Description: Core &Resource Usage; PortStyle: Bus Version
pins: I[1..0] (in), Y (out), YN (out)

## AND2DS
designator U?
2-Input AND/NAND Gate, Single Pin Version; FunctionalClass: Logic Primitive; SubClass: AND; PortSize: 2; ArchiveName: GENERIC; VHDLIB_SIM: GENERIC_LIB; Published: 29-Jan-2004; Publisher: Altium Limited; LastRevisionNo: 1.00.00; HelpURL: CR0118 FPGA Generic Library Guide.pdf#page=114; ComponentLink1URL: CR0136 FPGA Logic Primitive Resource Usage.pdf#page=8; ComponentLink1Description: Core &Resource Usage; PortStyle: Single Pin Version
pins: I0 (in), I1 (in), Y (out), YN (out)

## AND2N1B
designator U?
2-Input AND Gate with Active Low A Input, Bus Version; FunctionalClass: Logic Primitive; PortSize: 2; ArchiveName: GENERIC; VHDLIB_SIM: GENERIC_LIB; Published: 29-Jan-2004; Publisher: Altium Limited; LastRevisionNo: 1.00.00; HelpURL: CR0118 FPGA Generic Library Guide.pdf#page=114; ComponentLink1URL: CR0136 FPGA Logic Primitive Resource Usage.pdf#page=9; ComponentLink1Description: Core &Resource Usage; SubClass: AND; PortStyle: Bus Version
pins: I[1..0] (in), O (out)
text: I0

## AND2N1S
designator U?
2-Input AND Gate with Active Low A Input, Single Pin Version; XilinxEquivalent: AND2B1; FunctionalClass: Logic Primitive; PortSize: 2; ArchiveName: GENERIC; VHDLIB_SIM: GENERIC_LIB; Published: 29-Jan-2004; Publisher: Altium Limited; LastRevisionNo: 1.00.00; HelpURL: CR0118 FPGA Generic Library Guide.pdf#page=114; ComponentLink1URL: CR0136 FPGA Logic Primitive Resource Usage.pdf#page=10; ComponentLink1Description: Core &Resource Usage; SubClass: AND; PortStyle: Single Pin Version
pins: I0 (in), I1 (in), O (out)

## AND2N2B
designator U?
2-Input AND Gate with Active Low A and B Inputs, Bus Version; FunctionalClass: Logic Primitive; PortSize: 2; ArchiveName: GENERIC; VHDLIB_SIM: GENERIC_LIB; Published: 29-Jan-2004; Publisher: Altium Limited; LastRevisionNo: 1.00.00; HelpURL: CR0118 FPGA Generic Library Guide.pdf#page=114; ComponentLink1URL: CR0136 FPGA Logic Primitive Resource Usage.pdf#page=11; ComponentLink1Description: Core &Resource Usage; SubClass: AND; PortStyle: Bus Version
pins: I[1..0] (in), O (out)

## AND2N2S
designator U?
2-Input AND Gate with Active Low A and B Inputs, Single Pin Version; XilinxEquivalent: AND2B2; FunctionalClass: Logic Primitive; PortSize: 2; ArchiveName: GENERIC; VHDLIB_SIM: GENERIC_LIB; Published: 29-Jan-2004; Publisher: Altium Limited; LastRevisionNo: 1.00.00; HelpURL: CR0118 FPGA Generic Library Guide.pdf#page=114; ComponentLink1URL: CR0136 FPGA Logic Primitive Resource Usage.pdf#page=12; ComponentLink1Description: Core &Resource Usage; SubClass: AND; PortStyle: Single Pin Version
pins: I0 (in), I1 (in), O (out)

## AND2S
designator U?
2-Input AND Gate, Single Pin Version; XilinxEquivalent: AND2; FunctionalClass: Logic Primitive; PortSize: 2; ArchiveName: GENERIC; VHDLIB_SIM: GENERIC_LIB; Published: 29-Jan-2004; Publisher: Altium Limited; LastRevisionNo: 1.00.00; HelpURL: CR0118 FPGA Generic Library Guide.pdf#page=114; ComponentLink1URL: CR0136 FPGA Logic Primitive Resource Usage.pdf#page=13; ComponentLink1Description: Core &Resource Usage; SubClass: AND; PortStyle: Single Pin Version
pins: I0 (in), I1 (in), O (out)

## AND3B
designator U?
3-Input AND Gate, Bus Version; FunctionalClass: Logic Primitive; PortSize: 3; ArchiveName: GENERIC; VHDLIB_SIM: GENERIC_LIB; Published: 29-Jan-2004; Publisher: Altium Limited; LastRevisionNo: 1.00.00; HelpURL: CR0118 FPGA Generic Library Guide.pdf#page=114; ComponentLink1URL: CR0136 FPGA Logic Primitive Resource Usage.pdf#page=14; ComponentLink1Description: Core &Resource Usage; SubClass: AND; PortStyle: Bus Version
pins: I[2..0] (in), O (out)

## AND3DB
designator U?
3-Input AND/NAND Gate, Bus Version; FunctionalClass: Logic Primitive; SubClass: AND; PortSize: 3; ArchiveName: GENERIC; VHDLIB_SIM: GENERIC_LIB; Published: 29-Jan-2004; Publisher: Altium Limited; LastRevisionNo: 1.00.00; HelpURL: CR0118 FPGA Generic Library Guide.pdf#page=114; ComponentLink1URL: CR0136 FPGA Logic Primitive Resource Usage.pdf#page=15; ComponentLink1Description: Core &Resource Usage; PortStyle: Bus Version
pins: I[2..0] (in), Y (out), YN (out)

## AND3DS
designator U?
3-Input AND/NAND Gate, Single Pin Version; FunctionalClass: Logic Primitive; SubClass: AND; PortSize: 3; ArchiveName: GENERIC; VHDLIB_SIM: GENERIC_LIB; Published: 29-Jan-2004; Publisher: Altium Limited; LastRevisionNo: 1.00.00; HelpURL: CR0118 FPGA Generic Library Guide.pdf#page=114; ComponentLink1URL: CR0136 FPGA Logic Primitive Resource Usage.pdf#page=16; ComponentLink1Description: Core &Resource Usage; PortStyle: Single Pin Version
pins: I0 (in), I1 (in), I2 (in), Y (out), YN (out)

## AND3N1B
designator U?
3-Input AND Gate with Active Low A Input, Bus Version; FunctionalClass: Logic Primitive; PortSize: 3; ArchiveName: GENERIC; VHDLIB_SIM: GENERIC_LIB; Published: 29-Jan-2004; Publisher: Altium Limited; LastRevisionNo: 1.00.00; HelpURL: CR0118 FPGA Generic Library Guide.pdf#page=114; ComponentLink1URL: CR0136 FPGA Logic Primitive Resource Usage.pdf#page=17; ComponentLink1Description: Core &Resource Usage; SubClass: AND; PortStyle: Bus Version
pins: I[2..0] (in), O (out)
text: I0

## AND3N1S
designator U?
3-Input AND Gate with Active Low A Input, Single Pin Version; XilinxEquivalent: AND3B1; FunctionalClass: Logic Primitive; PortSize: 3; ArchiveName: GENERIC; VHDLIB_SIM: GENERIC_LIB; Published: 29-Jan-2004; Publisher: Altium Limited; LastRevisionNo: 1.00.00; HelpURL: CR0118 FPGA Generic Library Guide.pdf#page=114; ComponentLink1URL: CR0136 FPGA Logic Primitive Resource Usage.pdf#page=18; ComponentLink1Description: Core &Resource Usage; SubClass: AND; PortStyle: Single Pin Version
pins: I0 (in), I1 (in), I2 (in), O (out)

## AND3N2B
designator U?
3-Input AND Gate with Active Low A and B Inputs, Bus Version; FunctionalClass: Logic Primitive; PortSize: 3; ArchiveName: GENERIC; VHDLIB_SIM: GENERIC_LIB; Published: 29-Jan-2004; Publisher: Altium Limited; LastRevisionNo: 1.00.00; HelpURL: CR0118 FPGA Generic Library Guide.pdf#page=114; ComponentLink1URL: CR0136 FPGA Logic Primitive Resource Usage.pdf#page=19; ComponentLink1Description: Core &Resource Usage; SubClass: AND; PortStyle: Bus Version
pins: I[2..0] (in), O (out)
text: I0

## AND3N2S
designator U?
3-Input AND Gate with Active Low A and B Inputs, Single Pin Version; XilinxEquivalent: AND3B2; FunctionalClass: Logic Primitive; PortSize: 3; ArchiveName: GENERIC; VHDLIB_SIM: GENERIC_LIB; Published: 29-Jan-2004; Publisher: Altium Limited; LastRevisionNo: 1.00.00; HelpURL: CR0118 FPGA Generic Library Guide.pdf#page=114; ComponentLink1URL: CR0136 FPGA Logic Primitive Resource Usage.pdf#page=20; ComponentLink1Description: Core &Resource Usage; SubClass: AND; PortStyle: Single Pin Version
pins: I0 (in), I1 (in), I2 (in), O (out)

## AND3N3B
designator U?
3-Input AND Gate with Active Low A, B and C Inputs, Bus Version; FunctionalClass: Logic Primitive; PortSize: 3; ArchiveName: GENERIC; VHDLIB_SIM: GENERIC_LIB; Published: 29-Jan-2004; Publisher: Altium Limited; LastRevisionNo: 1.00.00; HelpURL: CR0118 FPGA Generic Library Guide.pdf#page=114; ComponentLink1URL: CR0136 FPGA Logic Primitive Resource Usage.pdf#page=21; ComponentLink1Description: Core &Resource Usage; SubClass: AND; PortStyle: Bus Version
pins: I[2..0] (in), O (out)

## AND3N3S
designator U?
3-Input AND Gate with Active Low A, B and C Inputs, Single Pin Version; XilinxEquivalent: AND3B3; FunctionalClass: Logic Primitive; PortSize: 3; ArchiveName: GENERIC; VHDLIB_SIM: GENERIC_LIB; Published: 29-Jan-2004; Publisher: Altium Limited; LastRevisionNo: 1.00.00; HelpURL: CR0118 FPGA Generic Library Guide.pdf#page=114; ComponentLink1URL: CR0136 FPGA Logic Primitive Resource Usage.pdf#page=22; ComponentLink1Description: Core &Resource Usage; SubClass: AND; PortStyle: Single Pin Version
pins: I0 (in), I1 (in), I2 (in), O (out)

## AND3S
designator U?
3-Input AND Gate, Single Pin Version; XilinxEquivalent: AND3; FunctionalClass: Logic Primitive; PortSize: 3; ArchiveName: GENERIC; VHDLIB_SIM: GENERIC_LIB; Published: 29-Jan-2004; Publisher: Altium Limited; LastRevisionNo: 1.00.00; HelpURL: CR0118 FPGA Generic Library Guide.pdf#page=114; ComponentLink1URL: CR0136 FPGA Logic Primitive Resource Usage.pdf#page=23; ComponentLink1Description: Core &Resource Usage; SubClass: AND; PortStyle: Single Pin Version
pins: I0 (in), I1 (in), I2 (in), O (out)

## AND4B
designator U?
4-Input AND Gate, Bus Version; FunctionalClass: Logic Primitive; PortSize: 4; ArchiveName: GENERIC; VHDLIB_SIM: GENERIC_LIB; Published: 29-Jan-2004; Publisher: Altium Limited; LastRevisionNo: 1.00.00; HelpURL: CR0118 FPGA Generic Library Guide.pdf#page=114; ComponentLink1URL: CR0136 FPGA Logic Primitive Resource Usage.pdf#page=24; ComponentLink1Description: Core &Resource Usage; SubClass: AND; PortStyle: Bus Version
pins: I[3..0] (in), O (out)

## AND4DB
designator U?
4-Input AND/NAND Gate, Bus Version; FunctionalClass: Logic Primitive; SubClass: AND; PortSize: 4; ArchiveName: GENERIC; VHDLIB_SIM: GENERIC_LIB; Published: 29-Jan-2004; Publisher: Altium Limited; LastRevisionNo: 1.00.00; HelpURL: CR0118 FPGA Generic Library Guide.pdf#page=114; ComponentLink1URL: CR0136 FPGA Logic Primitive Resource Usage.pdf#page=25; ComponentLink1Description: Core &Resource Usage; PortStyle: Bus Version
pins: I[3..0] (in), Y (out), YN (out)

## AND4DS
designator U?
4-Input AND/NAND Gate, Single Pin Version; FunctionalClass: Logic Primitive; SubClass: AND; PortSize: 4; ArchiveName: GENERIC; VHDLIB_SIM: GENERIC_LIB; Published: 29-Jan-2004; Publisher: Altium Limited; LastRevisionNo: 1.00.00; HelpURL: CR0118 FPGA Generic Library Guide.pdf#page=114; ComponentLink1URL: CR0136 FPGA Logic Primitive Resource Usage.pdf#page=26; ComponentLink1Description: Core &Resource Usage; PortStyle: Single Pin Version
pins: I0 (in), I1 (in), I2 (in), I3 (in), Y (out), YN (out)

## AND4N1B
designator U?
4-Input AND Gate with Active Low A Input, Bus Version; FunctionalClass: Logic Primitive; PortSize: 4; ArchiveName: GENERIC; VHDLIB_SIM: GENERIC_LIB; Published: 29-Jan-2004; Publisher: Altium Limited; LastRevisionNo: 1.00.00; HelpURL: CR0118 FPGA Generic Library Guide.pdf#page=114; ComponentLink1URL: CR0136 FPGA Logic Primitive Resource Usage.pdf#page=27; ComponentLink1Description: Core &Resource Usage; SubClass: AND; PortStyle: Bus Version
pins: I[3..0] (in), O (out)
text: I0

## AND4N1S
designator U?
4-Input AND Gate with Active Low A Input, Single Pin Version; XilinxEquivalent: AND4B1; FunctionalClass: Logic Primitive; PortSize: 4; ArchiveName: GENERIC; VHDLIB_SIM: GENERIC_LIB; Published: 29-Jan-2004; Publisher: Altium Limited; LastRevisionNo: 1.00.00; HelpURL: CR0118 FPGA Generic Library Guide.pdf#page=114; ComponentLink1URL: CR0136 FPGA Logic Primitive Resource Usage.pdf#page=28; ComponentLink1Description: Core &Resource Usage; SubClass: AND; PortStyle: Single Pin Version
pins: I0 (in), I1 (in), I2 (in), I3 (in), O (out)

## AND4N2B
designator U?
4-Input AND Gate with Active Low A and B Inputs, Bus Version; FunctionalClass: Logic Primitive; PortSize: 4; ArchiveName: GENERIC; VHDLIB_SIM: GENERIC_LIB; Published: 29-Jan-2004; Publisher: Altium Limited; LastRevisionNo: 1.00.00; HelpURL: CR0118 FPGA Generic Library Guide.pdf#page=114; ComponentLink1URL: CR0136 FPGA Logic Primitive Resource Usage.pdf#page=29; ComponentLink1Description: Core &Resource Usage; SubClass: AND; PortStyle: Bus Version
pins: I[3..0] (in), O (out)
text: I0

## AND4N2S
designator U?
4-Input AND Gate with Active Low A and B Inputs, Single Pin Version; XilinxEquivalent: AND4B2; FunctionalClass: Logic Primitive; PortSize: 4; ArchiveName: GENERIC; VHDLIB_SIM: GENERIC_LIB; Published: 29-Jan-2004; Publisher: Altium Limited; LastRevisionNo: 1.00.00; HelpURL: CR0118 FPGA Generic Library Guide.pdf#page=114; ComponentLink1URL: CR0136 FPGA Logic Primitive Resource Usage.pdf#page=30; ComponentLink1Description: Core &Resource Usage; SubClass: AND; PortStyle: Single Pin Version
pins: I0 (in), I1 (in), I2 (in), I3 (in), O (out)

## AND4N3B
designator U?
4-Input AND Gate with Active Low A, B and C Inputs, Bus Version; FunctionalClass: Logic Primitive; PortSize: 4; ArchiveName: GENERIC; VHDLIB_SIM: GENERIC_LIB; Published: 29-Jan-2004; Publisher: Altium Limited; LastRevisionNo: 1.00.00; HelpURL: CR0118 FPGA Generic Library Guide.pdf#page=114; ComponentLink1URL: CR0136 FPGA Logic Primitive Resource Usage.pdf#page=31; ComponentLink1Description: Core &Resource Usage; SubClass: AND; PortStyle: Bus Version
pins: I[3..0] (in), O (out)
text: I0

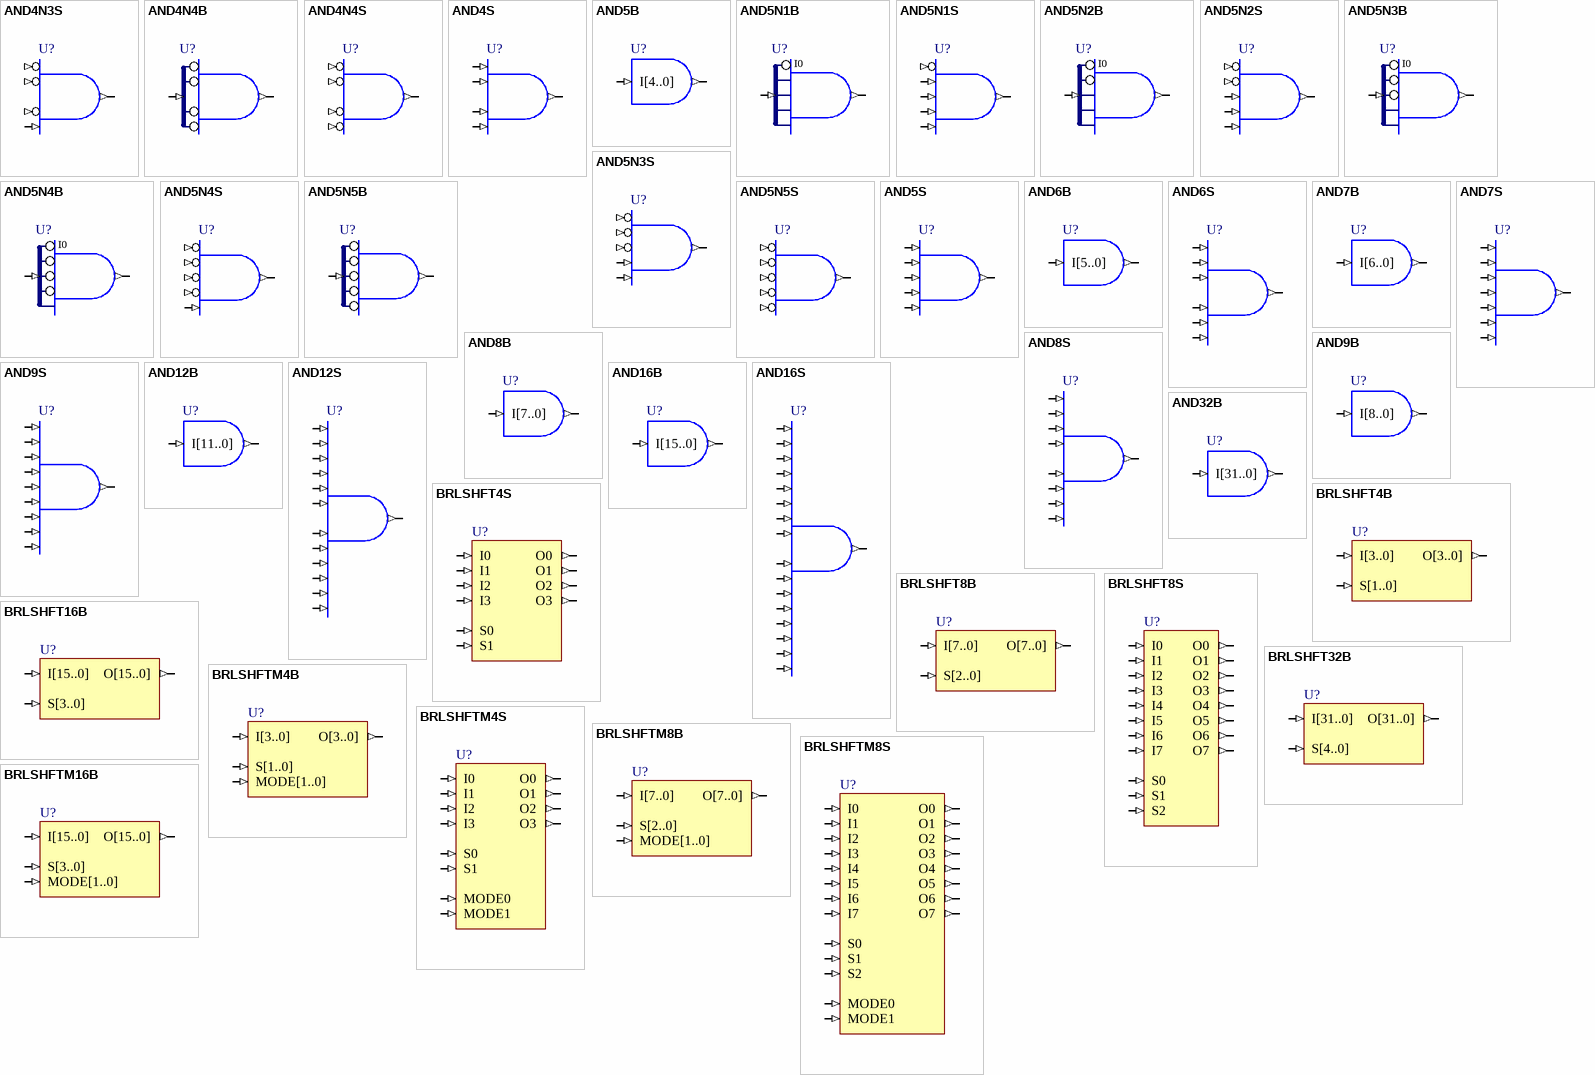
[diagram p2: symbols AND4N3S to BRLSHFTM16B]

## AND4N3S
designator U?
4-Input AND Gate with Active Low A, B and C Inputs, Single Pin Version; XilinxEquivalent: AND4B3; FunctionalClass: Logic Primitive; PortSize: 4; ArchiveName: GENERIC; VHDLIB_SIM: GENERIC_LIB; Published: 29-Jan-2004; Publisher: Altium Limited; LastRevisionNo: 1.00.00; HelpURL: CR0118 FPGA Generic Library Guide.pdf#page=114; ComponentLink1URL: CR0136 FPGA Logic Primitive Resource Usage.pdf#page=32; ComponentLink1Description: Core &Resource Usage; SubClass: AND; PortStyle: Single Pin Version
pins: I0 (in), I1 (in), I2 (in), I3 (in), O (out)

## AND4N4B
designator U?
4-Input AND Gate with Active Low A, B, C and D Inputs, Bus Version; FunctionalClass: Logic Primitive; PortSize: 4; ArchiveName: GENERIC; VHDLIB_SIM: GENERIC_LIB; Published: 29-Jan-2004; Publisher: Altium Limited; LastRevisionNo: 1.00.00; HelpURL: CR0118 FPGA Generic Library Guide.pdf#page=114; ComponentLink1URL: CR0136 FPGA Logic Primitive Resource Usage.pdf#page=33; ComponentLink1Description: Core &Resource Usage; SubClass: AND; PortStyle: Bus Version
pins: I[3..0] (in), O (out)

## AND4N4S
designator U?
4-Input AND Gate with Active Low A, B, C and D Inputs, Single Pin Version; XilinxEquivalent: AND4B4; FunctionalClass: Logic Primitive; PortSize: 4; ArchiveName: GENERIC; VHDLIB_SIM: GENERIC_LIB; Published: 29-Jan-2004; Publisher: Altium Limited; LastRevisionNo: 1.00.00; HelpURL: CR0118 FPGA Generic Library Guide.pdf#page=114; ComponentLink1URL: CR0136 FPGA Logic Primitive Resource Usage.pdf#page=34; ComponentLink1Description: Core &Resource Usage; SubClass: AND; PortStyle: Single Pin Version
pins: I0 (in), I1 (in), I2 (in), I3 (in), O (out)

## AND4S
designator U?
4-Input AND Gate, Single Pin Version; XilinxEquivalent: AND4; FunctionalClass: Logic Primitive; PortSize: 4; ArchiveName: GENERIC; VHDLIB_SIM: GENERIC_LIB; Published: 29-Jan-2004; Publisher: Altium Limited; LastRevisionNo: 1.00.00; HelpURL: CR0118 FPGA Generic Library Guide.pdf#page=114; ComponentLink1URL: CR0136 FPGA Logic Primitive Resource Usage.pdf#page=35; ComponentLink1Description: Core &Resource Usage; SubClass: AND; PortStyle: Single Pin Version
pins: I0 (in), I1 (in), I2 (in), I3 (in), O (out)

## AND5B
designator U?
5-Input AND Gate, Bus Version; FunctionalClass: Logic Primitive; PortSize: 5; ArchiveName: GENERIC; VHDLIB_SIM: GENERIC_LIB; Published: 29-Jan-2004; Publisher: Altium Limited; LastRevisionNo: 1.00.00; HelpURL: CR0118 FPGA Generic Library Guide.pdf#page=114; ComponentLink1URL: CR0136 FPGA Logic Primitive Resource Usage.pdf#page=36; ComponentLink1Description: Core &Resource Usage; SubClass: AND; PortStyle: Bus Version
pins: I[4..0] (in), O (out)